# EAGLE library part CRUMB644-NET (library chip45)
Crumb644-NET Crumb644-NET is a higly integrated rapid prototyping module with the ATmega644 AVR microcontroller by Atmel.
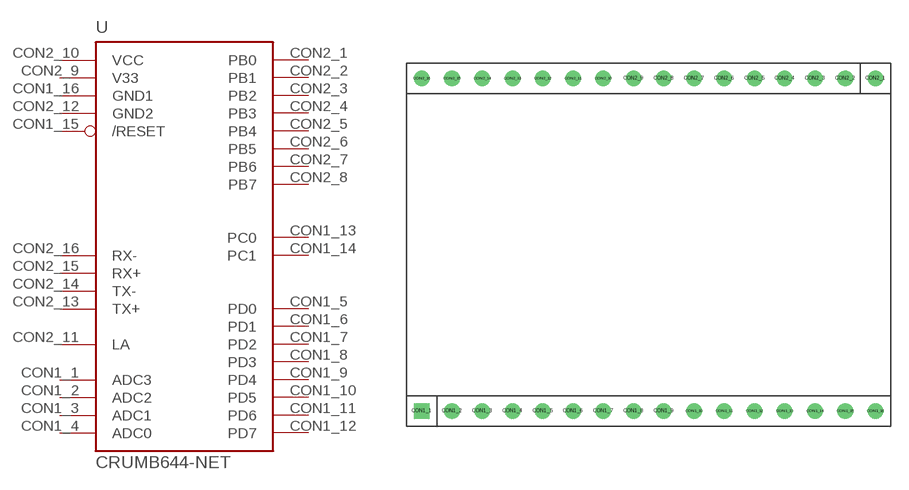
[diagram p6: symbol with the pads of CRUMB644-NET; footprint CRUMB644-NET]

Designator prefix -

## CRUMB644-NET (EEPROM: 2kB; FLASH: 64kB; PERIPHERALS: CP2201 Ethernet MAC und Phy, 3.3V voltage regulator, 4 channel 12 bit ADC; PROCESSOR: ATmega644; RAM: 4kB SRAM)  [CRUMB644-NET]
CON1_1  ADC3  in
CON1_2  ADC2  in
CON1_3  ADC1  in
CON1_4  ADC0  in
CON1_5  PD0
CON1_6  PD1
CON1_7  PD2
CON1_8  PD3
CON1_9  PD4
CON1_10  PD5
CON1_11  PD6
CON1_12  PD7
CON1_13  PC0
CON1_14  PC1
CON1_15  /RESET  in
CON1_16  GND1  pwr
CON2_1  PB0
CON2_2  PB1
CON2_3  PB2
CON2_4  PB3
CON2_5  PB4
CON2_6  PB5
CON2_7  PB6
CON2_8  PB7
CON2_9  V33  in
CON2_10  VCC  pwr
CON2_11  LA
CON2_12  GND2  pwr
CON2_13  TX+  out
CON2_14  TX-  out
CON2_15  RX+  in
CON2_16  RX-  in

## Footprint CRUMB644-NET (pad centres in mm)
Crumb644-NET Crumb644-NET offers extensive equipment on just 40x30mm size: the ATmega644 microcontroller, 10Mbit ethernet interface with CP2201 ethernet controller, 3.3V voltage regulator (for ethernet controller), 12 bit ADC with 4 channels, 4Mbit serial data flash, standard 6-pin AVR ISP connector, 20MHz clock crystal, status LEDs (1x ethernet link/activity, 2x free programmable), pin headers with unused ATmega644 signals, ADC inputs and ethernetsignals and footprint for RJ45 jack.
drill 0.8 square: CON1_1 -19.05,-15.24
drill 0.8 round: CON1_2 -16.51,-15.24; CON1_3 -13.97,-15.24; CON1_4 -11.43,-15.24; CON1_5 -8.89,-15.24; CON1_6 -6.35,-15.24; CON1_7 -3.81,-15.24; CON1_8 -1.27,-15.24; CON1_9 1.27,-15.24; CON1_10 3.81,-15.24; CON1_11 6.35,-15.24; CON1_12 8.89,-15.24; CON1_13 11.43,-15.24; CON1_14 13.97,-15.24; CON1_15 16.51,-15.24; CON1_16 19.05,-15.24; CON2_1 19.05,12.7; CON2_2 16.51,12.7; CON2_3 13.97,12.7; CON2_4 11.43,12.7; CON2_5 8.89,12.7; CON2_6 6.35,12.7; CON2_7 3.81,12.7; CON2_8 1.27,12.7; CON2_9 -1.27,12.7; CON2_10 -3.81,12.7; CON2_11 -6.35,12.7; CON2_12 -8.89,12.7; CON2_13 -11.43,12.7; CON2_14 -13.97,12.7; CON2_15 -16.51,12.7; CON2_16 -19.05,12.7